# Altium footprint library USB-3-C-HZ-FM-4-FIX-DIP-SIG-SMDDIP-WO-CRIMP.PcbLib: 1 footprints
Each footprint in its own frame and in the unit in brackets; x right, y up, seen from the top. Pads: shape width x height; smd on the part's side, far side on the other; paste and mask are expansions set on the pad; w line width, h text height; cw(c..) or ccw(c..) is an arc to the next point about the centre after c.
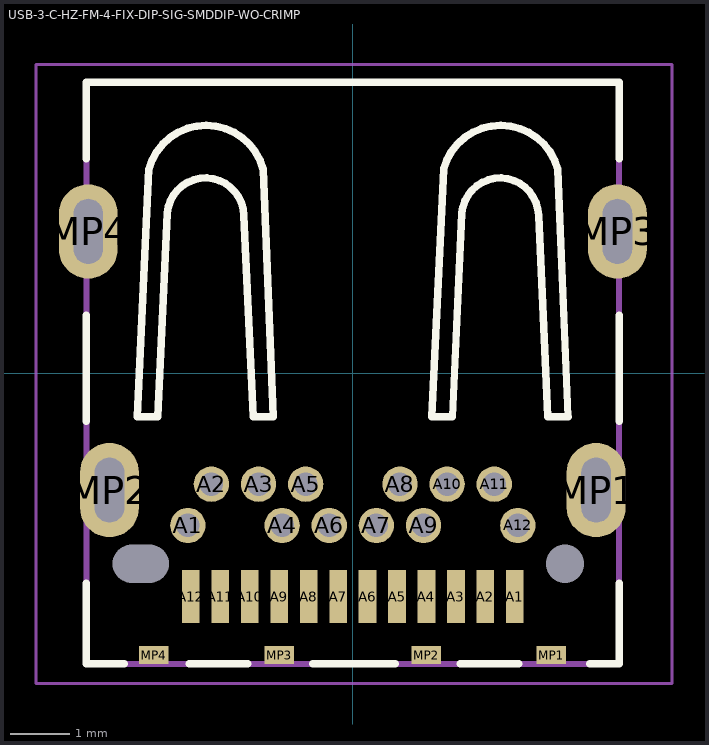
[diagram p0: the footprint, top view; thin cyan lines are the x and y axes]

## USB-3-C-HZ-FM-4-FIX-DIP-SIG-SMDDIP-WO-CRIMP [mm]
height 3.26
pads (34):
  round 0.1 hole 0.65 slot 0.95 at 0 deg unplated: 0(-3.6,-3.235)
  rect 0.1x0.1 hole 0.65 unplated: 0(3.6,-3.235)
  round 0.6 hole 0.4: A1(-2.8,-2.585) A2(-2.4,-1.885) A3(-1.6,-1.885) A4(-1.2,-2.585) A5(-0.8,-1.885) A6(-0.4,-2.585) A7(0.4,-2.585) A8(0.8,-1.885) A9(1.2,-2.585) A10(1.6,-1.885) A11(2.4,-1.885) A12(2.8,-2.585)
  rect 0.3x0.9 smd: A1(2.75,-3.795) A2(2.25,-3.795) A3(1.75,-3.795) A4(1.25,-3.795) A5(0.75,-3.795) A6(0.25,-3.795) A7(-0.25,-3.795) A8(-0.75,-3.795) A9(-1.25,-3.795) A10(-1.75,-3.795) A11(-2.25,-3.795) A12(-2.75,-3.795)
  rect 0.5x0.3 smd: MP1(3.37,-4.785) MP2(1.25,-4.785) MP3(-1.25,-4.785) MP4(-3.38,-4.785)
  oval 1x1.6 hole 0.5 slot 1.1 at 90 deg: MP1(4.13,-1.985) MP2(-4.13,-1.985) MP3(4.49,2.405) MP4(-4.49,2.405)
Top Overlay:
  lines w0.127: -4.52,-3.565 -4.52,-4.935 -3.88,-4.935 ; -4.52,-0.815 -4.52,0.985 ; -4.52,3.635 -4.52,4.935 4.52,4.935 4.52,3.635 ; -2.78,-4.935 -1.78,-4.935 ; -0.68,-4.935 0.72,-4.935 ; 1.82,-4.935 2.82,-4.935 ; 4.02,-4.935 4.52,-4.935 4.52,-3.565 ; 4.52,-0.815 4.52,0.985 ; -3.657,-0.74 -3.461,3.463 cw(c-2.491,3.202) -1.52,3.455 -1.348,-0.74 -1.692,-0.74 -1.848,2.674 ccw(c-2.5,2.66) -3.15,2.71 -3.308,-0.74 -3.657,-0.74 ; 1.343,-0.74 1.692,-0.74 1.85,2.71 cw(c2.5,2.66) 3.152,2.674 3.308,-0.74 3.652,-0.74 3.48,3.455 ccw(c2.509,3.202) 1.539,3.463 1.343,-0.74
Mechanical 13:
  lines w0.1: -4.52,-4.935 -4.52,4.935 4.52,4.935 4.52,-4.935 -4.52,-4.935
Mechanical 15:
  lines w0.05: -5.38,-5.265 5.42,-5.265 5.42,5.235 -5.38,5.235 -5.38,-5.265